# Altium footprint library PIC16F690_Footprint.PcbLib: 7 footprints
Each footprint in its own frame and in the unit in brackets; x right, y up, seen from the top. Pads: shape width x height; smd on the part's side, far side on the other; paste and mask are expansions set on the pad; w line width, h text height; cw(c..) or ccw(c..) is an arc to the next point about the centre after c.
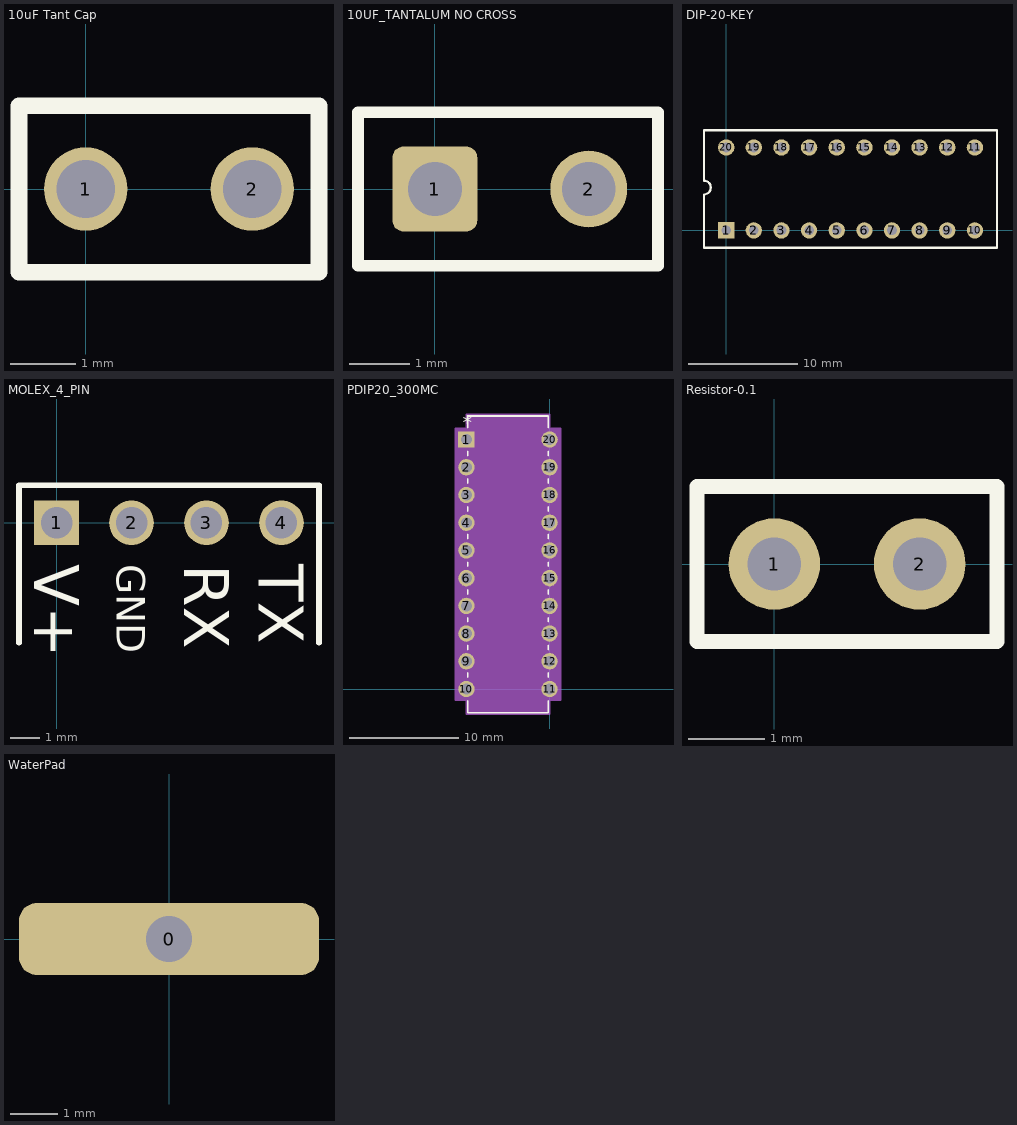
[diagram p0: the footprints below, top view; thin cyan lines are the x and y axes]

## 10uF Tant Cap [mil]
pads (2):
  round 50 hole 35: 1(0,0) 2(100,0)
Top Overlay:
  lines w10: -40,-50 -40,50 140,50 140,25 140,-25 140,-50 -40,-50

## 10UF_TANTALUM NO CROSS [mil]
pads (2):
  rrect25% 55.12x55.12 hole 35: 1(0,0)
  round 50 hole 35: 2(100,0)
Top Overlay:
  lines w7.5: -50,-50 145,-50 145,50 -50,50 -50,-50

## DIP-20-KEY [mm] "DIP; 20 Leads; Row Spacing 7.62 mm; Pitch 2.54 mm"
pads (20):
  rect 1.5x1.5 hole 0.889: 1(0,0)
  round 1.5 hole 0.889: 2(2.54,0) 3(5.08,0) 4(7.62,0) 5(10.16,0) 6(12.7,0) 7(15.24,0) 8(17.78,0) 9(20.32,0) 10(22.86,0) 11(22.86,7.62) 12(20.32,7.62) 13(17.78,7.62) 14(15.24,7.62) 15(12.7,7.62) 16(10.16,7.62) 17(7.62,7.62) 18(5.08,7.62) 19(2.54,7.62) 20(0,7.62)
Top Overlay:
  lines w0.2: -2.05,4.57 cw(c-2.05,3.935) -2.05,3.3 -2.05,-1.59 24.892,-1.59 24.892,9.2 -2.05,9.2 -2.05,4.6

## MOLEX_4_PIN [mil]
pads (4):
  rect 59.5x59.5 hole 42: 1(0,0)
  round 59.5 hole 42: 2(100,0) 3(200,0) 4(300,0)
Top Overlay:
  lines w7.5: -50,-160 -50,50 350,50 350,-160
  text "TX" at 270,-55 h60
  text "RX" at 170,-55 h60
  text "GND" at 80,-55 h38
  text "V+" at -30,-55 h60

## PDIP20_300MC [mil]
pads (20):
  rect 59x59 / inner round 60 / far side rect 59x59 hole 39 paste+0 mask+0: 1(-300,900)
  round 59 / inner round 60 / far side round 59 hole 39 paste+0 mask+0: 2(-300,800) 3(-300,700) 4(-300,600) 5(-300,500) 6(-300,400) 7(-300,300) 8(-300,200) 9(-300,100) 10(-300,0) 11(0,0) 12(0,100) 13(0,200) 14(0,300) 15(0,400) 16(0,500) 17(0,600) 18(0,700) 19(0,800) 20(0,900)
Top Overlay:
  lines w6: -295,-42.31 -295,-85 -5,-85 -5,-42.31 ; -295,42.31 -295,57.69 ; -295,142.31 -295,157.69 ; -295,242.31 -295,257.69 ; -295,342.31 -295,357.69 ; -295,442.31 -295,457.69 ; -295,542.31 -295,557.69 ; -295,642.31 -295,657.69 ; -295,742.31 -295,757.69 ; -295,842.31 -295,857.4 ; -295,942.6 -295,985 -5,985 -5,942.31 ; -5,42.31 -5,57.69 ; -5,142.31 -5,157.69 ; -5,242.31 -5,257.69 ; -5,342.31 -5,357.69 ; -5,442.31 -5,457.69 ; -5,542.31 -5,557.69 ; -5,642.31 -5,657.69 ; -5,742.31 -5,757.69 ; -5,842.31 -5,857.69
  text "*" at -312.5,934.5 h50
Mechanical 13:
  lines w0: -162,980 ccw(c-150,980) -138,980
  lines w1: -319.5,-19.5 -290,-19.5 -290,19.5 -319.5,19.5 -319.5,-19.5 ; -319.5,80.5 -290,80.5 -290,119.5 -319.5,119.5 -319.5,80.5 ; -319.5,180.5 -290,180.5 -290,219.5 -319.5,219.5 -319.5,180.5 ; -319.5,280.5 -290,280.5 -290,319.5 -319.5,319.5 -319.5,280.5 ; -319.5,380.5 -290,380.5 -290,419.5 -319.5,419.5 -319.5,380.5 ; -319.5,480.5 -290,480.5 -290,519.5 -319.5,519.5 -319.5,480.5 ; -319.5,580.5 -290,580.5 -290,619.5 -319.5,619.5 -319.5,580.5 ; -319.5,680.5 -290,680.5 -290,719.5 -319.5,719.5 -319.5,680.5 ; -319.5,780.5 -290,780.5 -290,819.5 -319.5,819.5 -319.5,780.5 ; -319.5,880.5 -290,880.5 -290,919.5 -319.5,919.5 -319.5,880.5 ; -290,-80 -290,980 -10,980 -10,-80 -290,-80 ; -10,-19.5 19.5,-19.5 19.5,19.5 -10,19.5 -10,-19.5 ; -10,80.5 19.5,80.5 19.5,119.5 -10,119.5 -10,80.5 ; -10,180.5 19.5,180.5 19.5,219.5 -10,219.5 -10,180.5 ; -10,280.5 19.5,280.5 19.5,319.5 -10,319.5 -10,280.5 ; -10,380.5 19.5,380.5 19.5,419.5 -10,419.5 -10,380.5 ; -10,480.5 19.5,480.5 19.5,519.5 -10,519.5 -10,480.5 ; -10,580.5 19.5,580.5 19.5,619.5 -10,619.5 -10,580.5 ; -10,680.5 19.5,680.5 19.5,719.5 -10,719.5 -10,680.5 ; -10,780.5 19.5,780.5 19.5,819.5 -10,819.5 -10,780.5 ; -10,880.5 19.5,880.5 19.5,919.5 -10,919.5 -10,880.5
  text "*" at -292.5,875 h50
Mechanical 15:
  region: 0,-40 39.5,-40 39.5,940 0,940 0,990 -300,990 -300,940 -339.5,940 -339.5,-40 -300,-40 -300,-90 0,-90
  lines w6: -339.5,-40 -300,-40 -300,-90 0,-90 0,-40 39.5,-40 39.5,940 0,940 0,990 -300,990 -300,940 -339.5,940 -339.5,-40
3D body: height 10, standoff 0, extent 0,0 10,10

## Resistor-0.1 [mm] "Resistor, Thru-Hole; 2 Leads; 0.1 in Pin Spacing"
pads (2):
  round 1.2 hole 0.7: 1(0,0) 2(1.905,0)
Top Overlay:
  lines w0.2: -1.016,-1.016 2.921,-1.016 2.921,1.016 -1.016,1.016 -1.016,-1.016

## WaterPad [mil]
pads (1):
  rrect50% 250x60 hole 38: 0(0,0)